# Altium integrated library WiFi_Antenna.IntLib: 1 symbol
Pins are listed as number, name and electrical type; pins without a type are passive.

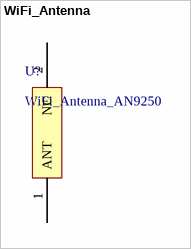
[diagram p0: symbol WiFi_Antenna]

## WiFi_Antenna
designator U?, comment WiFi_Antenna_AN9250
footprint RainSunAN2051
pins: 1 ANT, 2 NC